# Altium footprint library Renesas new.PcbLib: 2 footprints
Each footprint in its own frame and in the unit in brackets; x right, y up, seen from the top. Pads: shape width x height; smd on the part's side, far side on the other; paste and mask are expansions set on the pad; w line width, h text height; cw(c..) or ccw(c..) is an arc to the next point about the centre after c.
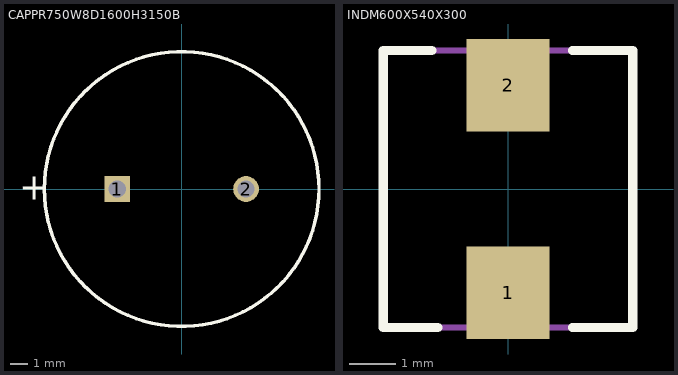
[diagram p0: the footprints below, top view; thin cyan lines are the x and y axes]

## CAPPR750W8D1600H3150B [mm]
height 31.5
pads (2):
  rect 1.5x1.5 hole 1 mask+0.102: 1(-3.75,0)
  round 1.5 hole 1 mask+0.102: 2(3.75,0)
Top Overlay:
  circle w0.203: c0,0 r8
  text "+" at -9.474,-0.635 h1.52
Mechanical 1:
  text "'.Designator'" at 0,0 h1.52
Mechanical 15:
  circle w0.127: c0,0 r8
  text "+" at -4.318,-0.737 h1.52
3D body: height 31.5, standoff 0, extent -8.001,-8.001 8,8.001

## INDM600X540X300 [mm]
height 3
pads (2):
  rect 1.8x2 smd: 1(0,-2.25) 2(0,2.25)
Top Overlay:
  lines w0.203: -1.651,3 -2.7,3 -2.7,-3 -1.524,-3 ; 1.397,-3 2.7,-3 2.7,3 1.397,3
Mechanical 1:
  text "'.Designator'" at 0,0 h1.52
Mechanical 15:
  lines w0.127: -2.7,-3 2.7,-3 2.7,3 -2.7,3 -2.7,-3
3D body: height 3, standoff 0, extent -2.7,-3 2.7,3